# EAGLE library part ADV7125 (library adv7125)
Analog Devices Video DAC 3 Channel (RGB) with active low sync and blank
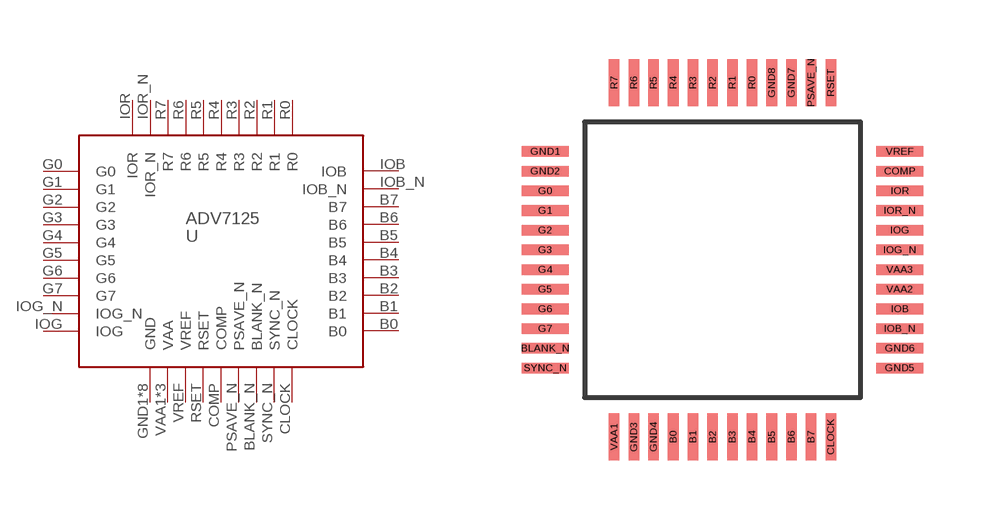
[diagram p0: symbol with the pads of LQFP48; footprint LQFP48]

Designator prefix -

## ADV7125  [LQFP48]
B0  B0  in
B1  B1  in
B2  B2  in
B3  B3  in
B4  B4  in
B5  B5  in
B6  B6  in
B7  B7  in
BLANK_N  BLANK_N  in
CLOCK  CLOCK  in
COMP  COMP  in
G0  G0  in
G1  G1  in
G2  G2  in
G3  G3  in
G4  G4  in
G5  G5  in
G6  G6  in
G7  G7  in
GND1  GND  pwr
GND2  GND  pwr
GND3  GND  pwr
GND4  GND  pwr
GND5  GND  pwr
GND6  GND  pwr
GND7  GND  pwr
GND8  GND  pwr
IOB  IOB  out
IOB_N  IOB_N  out
IOG  IOG  out
IOG_N  IOG_N  out
IOR  IOR  out
IOR_N  IOR_N  out
PSAVE_N  PSAVE_N  in
R0  R0  in
R1  R1  in
R2  R2  in
R3  R3  in
R4  R4  in
R5  R5  in
R6  R6  in
R7  R7  in
RSET  RSET  in
SYNC_N  SYNC_N  in
VAA1  VAA  pwr
VAA2  VAA  pwr
VAA3  VAA  pwr
VREF  VREF  in

## Footprint LQFP48 (pad centres in mm)
smd 0.27 x 1.2: B0 -2.75,-3.5; B1 -2.25,-3.5; B2 -1.75,-3.5; B3 -1.25,-3.5; B4 -0.75,-3.5; B5 -0.25,-3.5; B6 0.25,-3.5; B7 0.75,-3.5; CLOCK 1.25,-3.5; GND3 -3.75,-3.5; GND4 -3.25,-3.5; GND7 0.25,5.5; GND8 -0.25,5.5; PSAVE_N 0.75,5.5; R0 -0.75,5.5; R1 -1.25,5.5; R2 -1.75,5.5; R3 -2.25,5.5; R4 -2.75,5.5; R5 -3.25,5.5; R6 -3.75,5.5; R7 -4.25,5.5; RSET 1.25,5.5; VAA1 -4.25,-3.5
smd 1.2 x 0.27: BLANK_N -6,-1.25; COMP 3,3.25; G0 -6,2.75; G1 -6,2.25; G2 -6,1.75; G3 -6,1.25; G4 -6,0.75; G5 -6,0.25; G6 -6,-0.25; G7 -6,-0.75; GND1 -6,3.75; GND2 -6,3.25; GND5 3,-1.75; GND6 3,-1.25; IOB 3,-0.25; IOB_N 3,-0.75; IOG 3,1.75; IOG_N 3,1.25; IOR 3,2.75; IOR_N 3,2.25; SYNC_N -6,-1.75; VAA2 3,0.25; VAA3 3,0.75; VREF 3,3.75